# Altium integrated library BJT.IntLib: 18 symbols
Pins are listed as number, name and electrical type; pins without a type are passive.

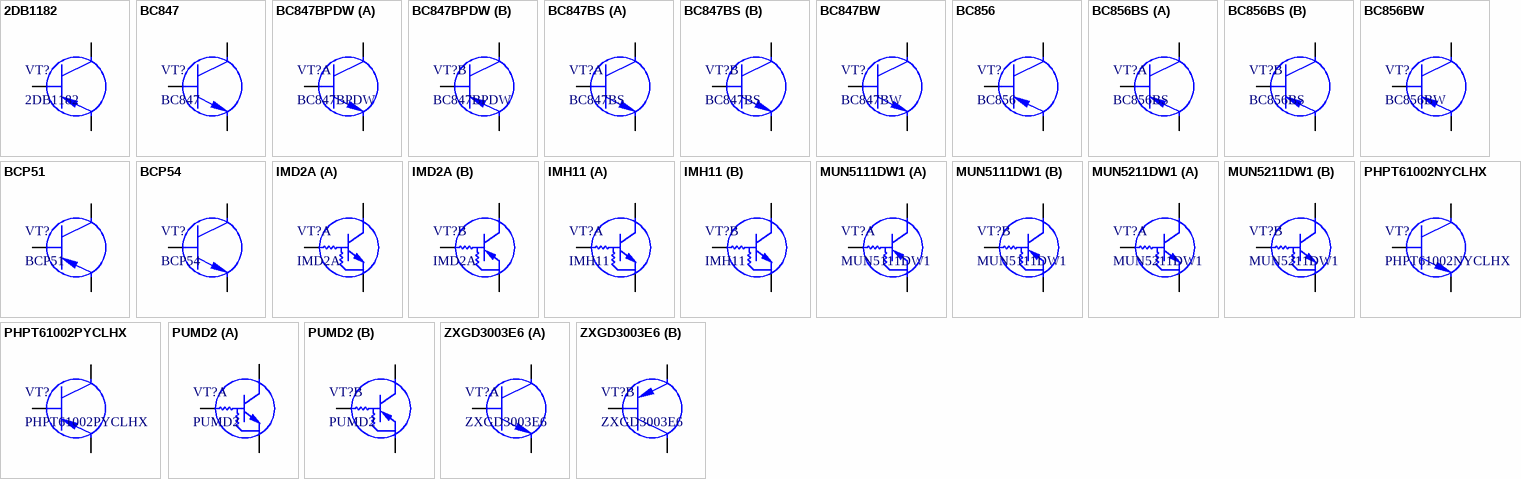
[diagram p0: symbols 2DB1182 to ZXGD3003E6]

## 2DB1182
designator VT?
PNP 10W Transistor 32V; ComponentDescription: 2DB1182
footprint DPAK229P970X230-3N (D-PAK, 3-Pads, Body 6,20x6,71mm (max), IPC Medium Density)
pins: 1 B, 2 C, 3 E

## BC847
designator VT?
NPN Transistor 100mA 60V; ComponentDescription: BC847
footprint SOT95P230X110-3N (SOT23, 3-Leads, Body 2,90x2,30mm, Pitch 0,95mm, IPC Medium Density)
pins: 1 B, 2 E, 3 C

## BC847BPDW
designator VT?
NPN + PNP Transistor 100mA 60V; ComponentDescription: BC847BPDW
footprint SOTFL65P210X110-6N (SOTFL, 6-Leads, Body 2,00x2,10mm, Pitch 0,65mm, IPC Medium Density)
part A pins: 1 E, 2 B, 6 C
part B pins: 3 C, 4 E, 5 B

## BC847BS
designator VT?
2NPN Transistor 100mA 60V; ComponentDescription: BC847BS
footprint SOTFL65P210X110-6N (SOTFL, 6-Leads, Body 2,00x2,10mm, Pitch 0,65mm, IPC Medium Density)
part A pins: 1 E, 2 B, 6 C
part B pins: 3 C, 4 E, 5 B

## BC847BW
designator VT?
NPN Transistor 100mA 60V; ComponentDescription: BC847BW
footprint SOT323 (SOT-323/SC-70; 3 Leads; Body 2.2 x 2.2 mm, inc. leads (LxW max))
pins: 1 B, 2 E, 3 C

## BC856
designator VT?
PNP Transistor 100mA 60V; ComponentDescription: BC856
footprint SOT95P230X110-3N (SOT23, 3-Leads, Body 2,90x2,30mm, Pitch 0,95mm, IPC Medium Density)
pins: 1 B, 2 E, 3 C

## BC856BS
designator VT?
2PNP Transistor 100mA 60V; ComponentDescription: BC856BS
footprint SOTFL65P210X110-6N (SOTFL, 6-Leads, Body 2,00x2,10mm, Pitch 0,65mm, IPC Medium Density)
part A pins: 1 E, 2 B, 6 C
part B pins: 3 C, 4 E, 5 B

## BC856BW
designator VT?
PNP Transistor 100mA 60V; ComponentDescription: BC856BW
footprint SOT323 (SOT-323/SC-70; 3 Leads; Body 2.2 x 2.2 mm, inc. leads (LxW max))
pins: 1 B, 2 E, 3 C

## BCP51
designator VT?
PNP Transistor 1.2W; ComponentDescription: BCP51
footprint SOT230P700X180-4N (SOT223, 4-Leads, Body 6,50x7,00mm (avg), Pitch 2,30mm, IPC Medium Density)
pins: 1 B, 2 C, 3 E

## BCP54
designator VT?
NPN Transistor 1.2W; ComponentDescription: BCP54
footprint SOT230P700X180-4N (SOT223, 4-Leads, Body 6,50x7,00mm (avg), Pitch 2,30mm, IPC Medium Density)
pins: 1 B, 2 C, 3 E

## IMD2A
designator VT?
PNP + NPN R1, R2 22k Ohm; ComponentDescription: IMD2A
footprint SC-74 \ SOT-457 MIRROR (SOP, 6-Leads, Body 3,18x1,80mm, Pitch 0,95mm, IPC Medium Density)
part A pins: 1 C, 5 B, 6 E
part B pins: 2 B, 3 E, 4 C

## IMH11
designator VT?
R1,R2 10kOhm; ComponentDescription: IMH11
footprint SC-74 \ SOT-457 MIRROR (SOP, 6-Leads, Body 3,18x1,80mm, Pitch 0,95mm, IPC Medium Density)
part A pins: 1 C, 5 B, 6 E
part B pins: 2 B, 3 E, 4 C

## MUN5111DW1
designator VT?
Dual PNP, R1,R2 10kOhm; ComponentDescription: MUN5111DW1
footprint SOTFL65P210X110-6N (SOTFL, 6-Leads, Body 2,00x2,10mm, Pitch 0,65mm, IPC Medium Density)
part A pins: 1 E, 2 B, 6 C
part B pins: 3 C, 4 E, 5 B

## MUN5211DW1
designator VT?
Dual NPN, R1,R2 10kOhm; ComponentDescription: MUN5211DW1
footprint SOTFL65P210X110-6N (SOTFL, 6-Leads, Body 2,00x2,10mm, Pitch 0,65mm, IPC Medium Density)
part A pins: 1 E, 2 B, 6 C
part B pins: 3 C, 4 E, 5 B

## PHPT61002NYCLHX
designator VT?
NPN LFPACK56 25W; ComponentDescription: PHPT61002NYCLHX
footprint LFPACK56
pins: 1 E, 2 E, 3 E, 4 B, 5 C

## PHPT61002PYCLHX
designator VT?
PNP LFPACK56 25W; ComponentDescription: PHPT61002PYCLHX
footprint LFPACK56
pins: 1 E, 2 E, 3 E, 4 B, 5 C

## PUMD2
designator VT?
PNP+NPN, R1, R2 22k Ohm; ComponentDescription: PUMD2
footprint SOTFL65P210X110-6N (SOTFL, 6-Leads, Body 2,00x2,10mm, Pitch 0,65mm, IPC Medium Density)
part A pins: 1 E, 2 B, 6 C
part B pins: 3 C, 4 E, 5 B

## ZXGD3003E6
designator VT?
Gate driver 40V 5A; ComponentDescription: ZXGD3003E6
footprint SOT95P230X110-6N (SOT23, 5-Leads, Body 2,90x2,30mm, Pitch 0,95mm, IPC Medium Density)
part A pins: 1 VCC, 2 IN1, 6 SOURCE
part B pins: 3 VEE, 4 SINK, 5 IN2